# Altium schematic symbol library SCH - CONNECTORS - SAMTEC - FTS-105-01-L-DV.SCHLIB: 1 symbol
Pins are listed as number, name and electrical type; pins without a type are passive.

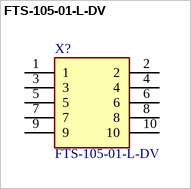
[diagram p0: symbol FTS-105-01-L-DV]

## FTS-105-01-L-DV
designator X?
Connector
pins: 1, 2, 3, 4, 5, 6, 7, 8, 9, 10